# EAGLE library part PIXHAWK2_RGB-LED (library PX4FMUv2.4)
RGB LED with separate anode/cathode terminals
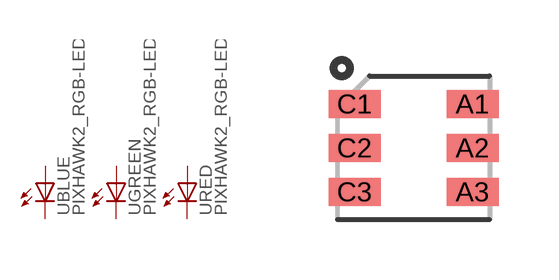
[diagram p22: symbol with the pads of PIXHAWK2_6-PLCC; footprint PIXHAWK2_6-PLCC]

Designator prefix U; gates BLUE=PIXHAWK2_LED GREEN=PIXHAWK2_LED RED=PIXHAWK2_LED

## PIXHAWK2_RGB-LED6-PLCC  [PIXHAWK2_6-PLCC]
A1  BLUE:A  pas
A2  GREEN:A  pas
A3  RED:A  pas
C1  BLUE:C  pas
C2  GREEN:C  pas
C3  RED:C  pas

## Footprint PIXHAWK2_6-PLCC (pad centres in mm)
smd 1.3 x 0.7: A1 1.475,1.1; A2 1.475,0; A3 1.475,-1.1; C1 -1.475,1.1; C2 -1.475,0; C3 -1.475,-1.1